# Altium footprint library Standard_SMD.PcbLib: 5 footprints
Each footprint in its own frame and in the unit in brackets; x right, y up, seen from the top. Pads: shape width x height; smd on the part's side, far side on the other; paste and mask are expansions set on the pad; w line width, h text height; cw(c..) or ccw(c..) is an arc to the next point about the centre after c.
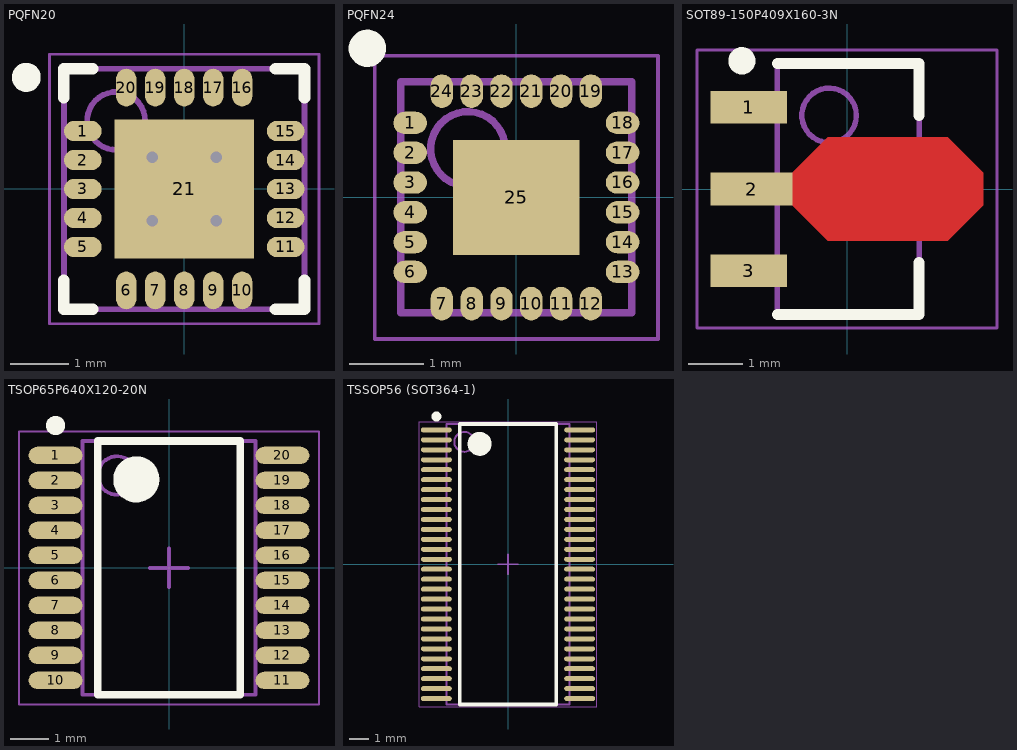
[diagram p0: the footprints below, top view; thin cyan lines are the x and y axes]

## PQFN20 [mm] "PQFN, 20-Leads, Body 4,00x4,00mm, Pitch 0,50mm, Thermal Pad 2,40x2,40mm, IPC Medium Density"
height 1
pads (21):
  oval 0.65x0.35 smd: 1(-1.75,1) 2(-1.75,0.5) 3(-1.75,0) 4(-1.75,-0.5) 5(-1.75,-1) 11(1.75,-1) 12(1.75,-0.5) 13(1.75,0) 14(1.75,0.5) 15(1.75,1)
  oval 0.35x0.65 smd: 6(-1,-1.75) 7(-0.5,-1.75) 8(0,-1.75) 9(0.5,-1.75) 10(1,-1.75) 16(1,1.75) 17(0.5,1.75) 18(0,1.75) 19(-0.5,1.75) 20(-1,1.75)
  rect 2.4x2.4 smd: 21(0,0)
via -0.55,0.55 diameter 0.5 hole 0.2
via 0.55,0.55 diameter 0.5 hole 0.2
via -0.55,-0.55 diameter 0.5 hole 0.2
via 0.55,-0.55 diameter 0.5 hole 0.2
Top Overlay:
  circle w0.25: c-2.725,1.925 r0.125
  lines w0.2: -2.075,-1.575 -2.075,-2.075 -1.575,-2.075 ; -2.075,1.575 -2.075,2.075 -1.575,2.075 ; 1.575,-2.075 2.075,-2.075 2.075,-1.575 ; 1.575,2.075 2.075,2.075 2.075,1.575
Mechanical 13:
  circle w0.1: c-1.175,1.175 r0.5
  lines w0.1: -2.075,-2.075 -2.075,2.075 2.075,2.075 2.075,-2.075 -2.075,-2.075
Mechanical 15:
  lines w0.05: -2.325,-2.325 -2.325,2.325 2.325,2.325 2.325,-2.325 -2.325,-2.325
  lines w0.1: -0.5,0 0.5,0 ; 0,-0.5 0,0.5
3D body "PQFN20.step": height 1, standoff 0, extent -2.075,-2.075 2.075,2.075

## PQFN24 [mm] "PQFN, 24-Leads, Body 3,00x3,00mm, Pitch 0,40mm, Thermal Pad 1,70x1,54mm, IPC Medium Density"
height 0.95
pads (25):
  oval 0.45x0.3 smd: 1(-1.425,1) 2(-1.425,0.6) 3(-1.425,0.2) 4(-1.425,-0.2) 5(-1.425,-0.6) 6(-1.425,-1) 13(1.425,-1) 14(1.425,-0.6) 15(1.425,-0.2) 16(1.425,0.2) 17(1.425,0.6) 18(1.425,1)
  oval 0.3x0.45 smd: 7(-1,-1.425) 8(-0.6,-1.425) 9(-0.2,-1.425) 10(0.2,-1.425) 11(0.6,-1.425) 12(1,-1.425) 19(1,1.425) 20(0.6,1.425) 21(0.2,1.425) 22(-0.2,1.425) 23(-0.6,1.425) 24(-1,1.425)
  rect 1.7x1.54 smd: 25(0,0)
Top Overlay:
  circle w0.25: c-2,2 r0.125
Mechanical 13:
  circle w0.1: c-0.65,0.65 r0.5
  lines w0.1: -1.55,-1.55 -1.55,1.55 1.55,1.55 1.55,-1.55 -1.55,-1.55
Mechanical 15:
  lines w0.05: -1.9,-1.9 -1.9,1.9 1.9,1.9 1.9,-1.9 -1.9,-1.9
  lines w0.1: -0.5,0 0.5,0 ; 0,-0.5 0,0.5
3D body "PQFN24.step": height 0.95, standoff 0, extent -1.65,-1.65 1.65,1.65

## SOT89-150P409X160-3N [mm] "SOT89, 3-Leads, Body 4,50x2,45mm, Pitch 1,50mm, Lead Span 4,1mm, IPC Medium Density"
height 1.6
pads (3):
  rect 1.4x0.6 smd: 1(-1.8,1.5) 3(-1.8,-1.5)
  rect 1.5x0.6 smd: 2(-1.75,0)
Top Layer:
  region: -1,0.3 -0.35,0.95 1.85,0.95 2.5,0.3 2.5,-0.3 1.85,-0.95 -0.35,-0.95 -1,-0.3
Top Overlay:
  circle w0.25: c-1.928,2.35 r0.125
  lines w0.2: -1.278,-2.3 1.322,-2.3 1.322,-1.35 ; -1.278,2.3 1.322,2.3 1.322,1.35
Mechanical 13:
  circle w0.1: c-0.328,1.35 r0.5
  lines w0.1: -1.278,-2.3 1.322,-2.3 1.322,2.3 -1.278,2.3 -1.278,-2.3
Mechanical 15:
  lines w0.05: -2.75,-2.55 2.75,-2.55 2.75,2.55 -2.75,2.55 -2.75,-2.55
  lines w0.1: -0.478,0 0.522,0 ; 0.022,-0.5 0.022,0.5
3D body "SOT89-150P409X160-3N.step": height 1.6, standoff 0, extent -2.2,-2.297 2.1,2.297

## TSOP65P640X120-20N [mm] "TSOP, 20-Leads, Body 6,50x4,40mm, Pitch 0,65mm, IPC Medium Density"
height 1.2
pads (20):
  oval 1.4x0.45 smd: 1(-2.95,2.925) 2(-2.95,2.275) 3(-2.95,1.625) 4(-2.95,0.975) 5(-2.95,0.325) 6(-2.95,-0.325) 7(-2.95,-0.975) 8(-2.95,-1.625) 9(-2.95,-2.275) 10(-2.95,-2.925) 11(2.95,-2.925) 12(2.95,-2.275) 13(2.95,-1.625) 14(2.95,-0.975) 15(2.95,-0.325) 16(2.95,0.325) 17(2.95,0.975) 18(2.95,1.625) 19(2.95,2.275) 20(2.95,2.925)
Top Overlay:
  circle w0.25: c-2.95,3.7 r0.125
  circle w0.6: c-0.85,2.3 r0.3
  lines w0.2: -1.85,-3.3 -1.85,3.3 1.85,3.3 1.85,-3.3 -1.85,-3.3
Mechanical 13:
  circle w0.1: c-1.35,2.4 r0.5
  lines w0.1: -2.25,-3.3 -2.25,3.3 2.25,3.3 2.25,-3.3 -2.25,-3.3
Mechanical 15:
  lines w0.05: -3.9,-3.55 -3.9,3.55 3.9,3.55 3.9,-3.55 -3.9,-3.55
  lines w0.1: -0.5,0 0.5,0 ; 0,-0.5 0,0.5
3D body "TSOP65P640X120-20N.step": height 1.2, standoff 0, extent -3.2,-3.3 3.2,3.3

## TSSOP56 (SOT364-1) [mm] "TSSOP, 56-Leads, Body 14,00x6,10mm, Pitch 0,50mm, IPC High Density"
height 1.2
pads (56):
  oval 1.55x0.25 smd: 1(-3.6,6.75) 2(-3.6,6.25) 3(-3.6,5.75) 4(-3.6,5.25) 5(-3.6,4.75) 6(-3.6,4.25) 7(-3.6,3.75) 8(-3.6,3.25) 9(-3.6,2.75) 10(-3.6,2.25) 11(-3.6,1.75) 12(-3.6,1.25) 13(-3.6,0.75) 14(-3.6,0.25) 15(-3.6,-0.25) 16(-3.6,-0.75) 17(-3.6,-1.25) 18(-3.6,-1.75) 19(-3.6,-2.25) 20(-3.6,-2.75) 21(-3.6,-3.25) 22(-3.6,-3.75) 23(-3.6,-4.25) 24(-3.6,-4.75) 25(-3.6,-5.25) 26(-3.6,-5.75) 27(-3.6,-6.25) 28(-3.6,-6.75) 29(3.6,-6.75) 30(3.6,-6.25) 31(3.6,-5.75) 32(3.6,-5.25) 33(3.6,-4.75) 34(3.6,-4.25) 35(3.6,-3.75) 36(3.6,-3.25) 37(3.6,-2.75) 38(3.6,-2.25) 39(3.6,-1.75) 40(3.6,-1.25) 41(3.6,-0.75) 42(3.6,-0.25) 43(3.6,0.25) 44(3.6,0.75) 45(3.6,1.25) 46(3.6,1.75) 47(3.6,2.25) 48(3.6,2.75) 49(3.6,3.25) 50(3.6,3.75) 51(3.6,4.25) 52(3.6,4.75) 53(3.6,5.25) 54(3.6,5.75) 55(3.6,6.25) 56(3.6,6.75)
Top Overlay:
  circle w0.25: c-3.6,7.425 r0.125
  circle w0.6: c-1.425,6.05 r0.3
  lines w0.2: -2.425,-7.05 -2.425,7.05 2.425,7.05 2.425,-7.05 -2.425,-7.05
Mechanical 13:
  circle w0.1: c-2.2,6.15 r0.5
  lines w0.1: -3.1,-7.05 -3.1,7.05 3.1,7.05 3.1,-7.05 -3.1,-7.05
Mechanical 15:
  lines w0.05: -4.45,-7.15 -4.45,7.15 4.45,7.15 4.45,-7.15 -4.45,-7.15
  lines w0.1: -0.5,0 0.5,0 ; 0,-0.5 0,0.5
3D body: height 1.2, standoff 0.1, extent -3.1,-7.05 3.1,7.05